# EAGLE library part ATTINY5 (library AR_mcu)
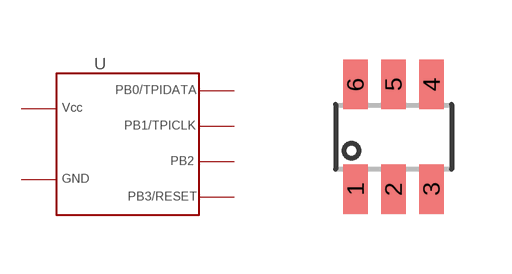
[diagram p3: symbol with the pads of SOT23-6; footprint SOT23-6]

Designator prefix -

## ATTINY5  [SOT23-6]
1  PB0/TPID
2  GND
3  PB1/TPICLK
4  PB2
5  VCC
6  PB3/RST

## Footprint SOT23-6 (pad centres in mm)
smd 0.62 x 1.23: 1 -0.95,-1.31; 2 0,-1.31; 3 0.95,-1.31; 4 0.95,1.31; 5 0,1.31; 6 -0.95,1.31